# EAGLE library part MCP2557 (library mcp2557)
MCP2557 Microchip FDCAN Transceiver (SOIC8 Package)
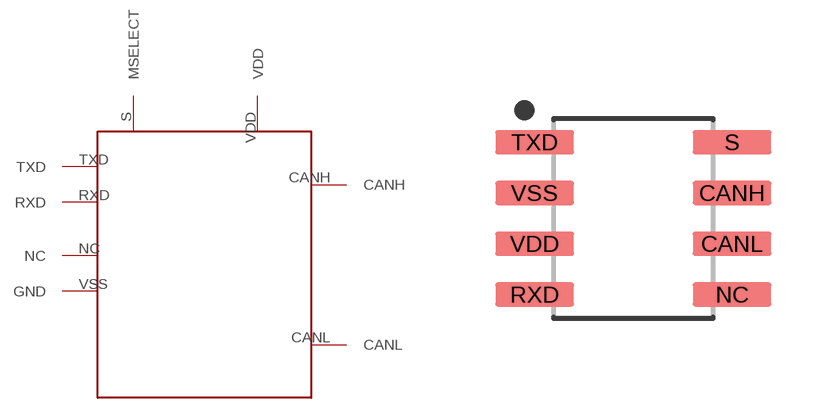
[diagram p0: symbol with the pads of MCP2557_SOIC8; footprint MCP2557_SOIC8]

Designator prefix U

## MCP2557  [MCP2557_SOIC8]
CANH  CANH
CANL  CANL
NC  NC
RXD  RXD
S  MSELECT
TXD  TXD
VDD  VDD
VSS  GND

## Footprint MCP2557_SOIC8 (pad centres in mm)
8-SOIC, 1.27 mm pitch, 6.00 mm span, 4.91 X 3.90 X 1.75 mm body 8-pin SOIC package with 1.27 mm pitch, 6.00 mm span with body size 4.91 X 3.90 X 1.75 mm
smd 1.965 x 0.602: CANH 2.47,0.635; CANL 2.47,-0.635; NC 2.47,-1.905; RXD -2.47,-1.905; S 2.47,1.905; TXD -2.47,1.905; VDD -2.47,-0.635; VSS -2.47,0.635